# EAGLE library part MCP355* (library MCP1710T)
Low-Power, Single-Channel 22-Bit Delta-Sigma ADCs Source: http://ww1.microchip.com/downloads/en/DeviceDoc/21950c.pdf
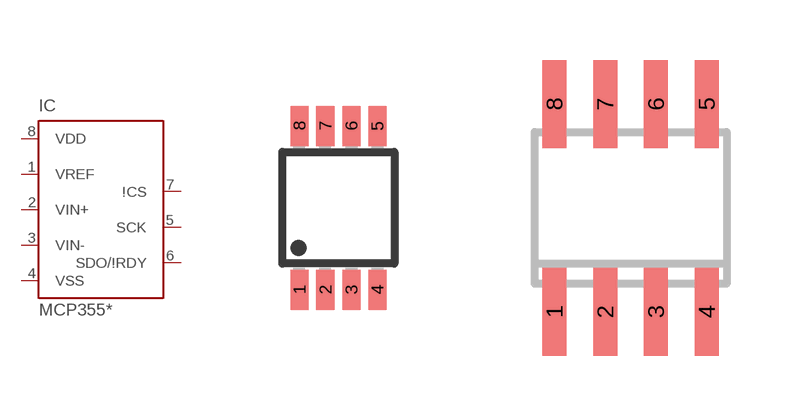
[diagram p93: symbol with the pads of MSOP8; footprints MSOP8, SO-08]

Designator prefix IC

## MCP3550-50MS, MCP3550-60MS, MCP3551MS, MCP3553MS  [MSOP8]
1  VREF  in
2  VIN+  in
3  VIN-  in
4  VSS  pwr
5  SCK  in
6  SDO/\!RDY  out
7  \!CS  in
8  VDD  pwr

## MCP3550-50SN, MCP3550-60SN, MCP3551SN, MCP3553SN  [SO-08]
Pads as for MSOP8

## Footprint MSOP8 (pad centres in mm)
Micro Small Outline Package Grid 0.65mm Source: http://ww1.microchip.com/downloads/en/DeviceDoc/21796H.pdf
smd 0.45 x 1: 1 -0.975,-2.05; 2 -0.325,-2.05; 3 0.325,-2.05; 4 0.975,-2.05; 5 0.975,2.05; 6 0.325,2.05; 7 -0.325,2.05; 8 -0.975,2.05

## Footprint SO-08 (pad centres in mm)
Small Outline Narrow Plastic Gull Wing 150-mil body, package type SN
smd 0.6 x 2.2: 1 -1.905,-2.6; 2 -0.635,-2.6; 3 0.635,-2.6; 4 1.905,-2.6; 5 1.905,2.6; 6 0.635,2.6; 7 -0.635,2.6; 8 -1.905,2.6